# Altium footprint library intlib_pcb.PcbLib: 7 footprints
Each footprint in its own frame and in the unit in brackets; x right, y up, seen from the top. Pads: shape width x height; smd on the part's side, far side on the other; paste and mask are expansions set on the pad; w line width, h text height; cw(c..) or ccw(c..) is an arc to the next point about the centre after c.
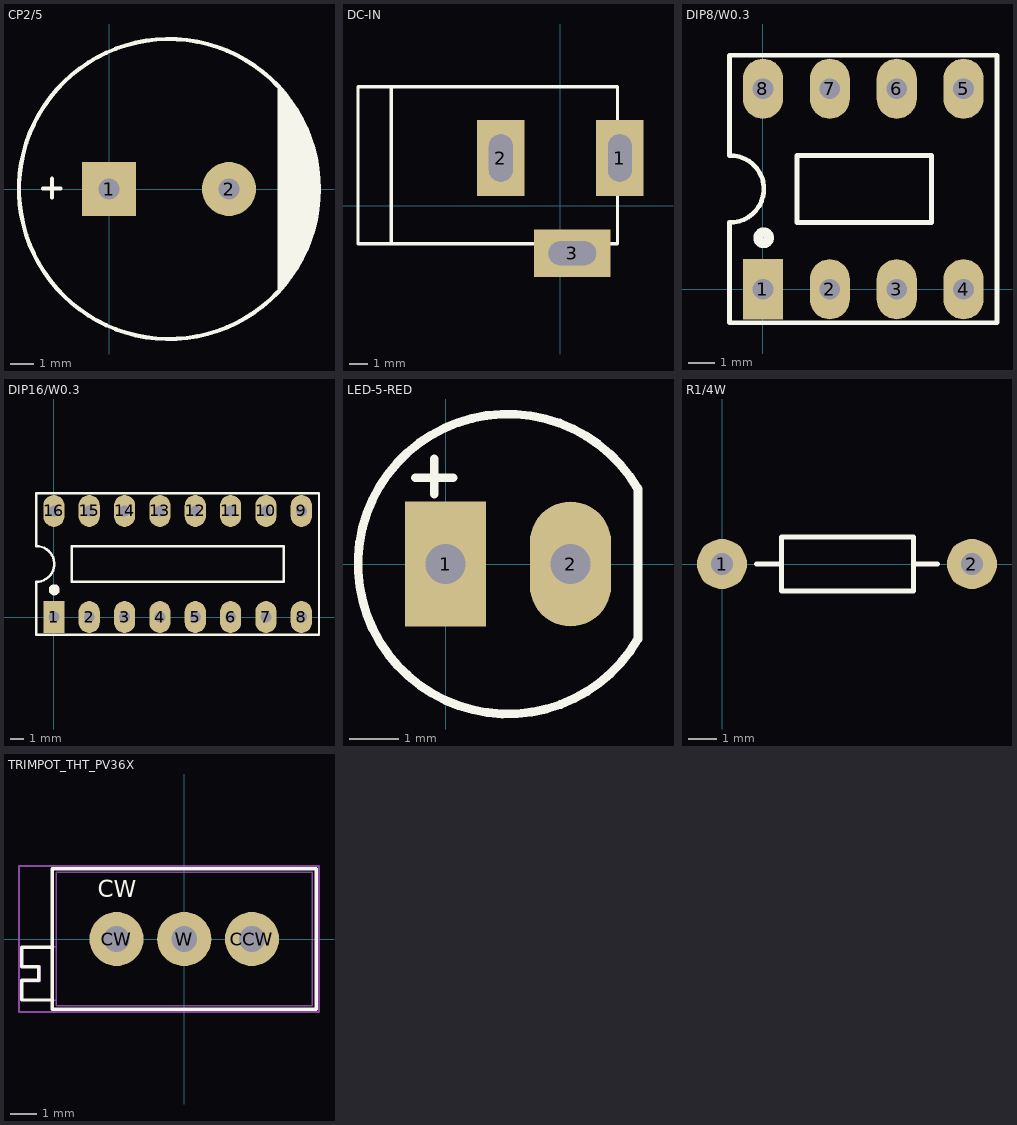
[diagram p0: the footprints below, top view; thin cyan lines are the x and y axes]

## CP2/5 [mil] "Tu hoa 1000uF/25V,50V"
height 600
pads (2):
  rect 90x90 hole 35: 1(0,0)
  round 90 hole 35: 2(200,0)
Top Overlay:
  circle w7: c100,0 r250
  region: 281,174 281,-175 300,-149 301,-151 318,-124 334,-90 349,-29 350,0 348,34 341,70 321,116
  lines w7: -110,1 -81,1 ; -95,-14 -95,17
3D body "User Library-Cap12_5x25.STEP": height 984.37, standoff -747.43, extent -142.12,-246.06 350,246.06

## DC-IN [mil] "Jac DC input"
height 200
pads (3):
  rect 100x160 hole 50 slot 100 at 90 deg: 1(125,100) 2(-125,100)
  rect 160x100 hole 50 slot 100 at 0 deg: 3(25,-100)
Top Overlay:
  lines w7: -355,-80 -355,250 ; -425,-80 -425,250 120,250 120,-80 -425,-80
3D body "SW3dPS-dc range - dc connector[4840.2201].STEP": height 433.67, standoff -137.2, extent -410.35,-105.12 134,269.12

## DIP8/W0.3 [mil] "8 PIN, W 300mil, Pin to pin 100mil"
height 100
pads (8):
  rect 60x90 hole 31: 1(0,0)
  oval 60x90 hole 31: 2(100,0) 3(200,0) 4(300,0) 5(300,300) 6(200,300) 7(100,300) 8(0,300)
Top Overlay:
  circle w15: c1,77 r8
  lines w7: -50.38,100.05 ccw(c-48.69,150.02) -50,200 ; -50,100 -50,-50 350,-50 350,350 -50,350 -50,201 ; 51,100 252,100 252,200 51,200 51,100
3D body "SW3dPS-DIP8-CER.STEP": height 201.25, standoff -129.47, extent -50,-40 350,336.4

## DIP16/W0.3 [mil] "16 PIN, W 300mil, Pin to pin 100mil"
height 100
pads (16):
  rect 60x90 hole 31: 1(0,0)
  oval 60x90 hole 31: 2(100,0) 3(200,0) 4(300,0) 5(400,0) 6(500,0) 7(600,0) 8(700,0) 9(700,300) 10(600,300) 11(500,300) 12(400,300) 13(300,300) 14(200,300) 15(100,300) 16(0,300)
Top Overlay:
  circle w15: c1,77 r8
  lines w7: -50.38,100.05 ccw(c-48.69,150.02) -50,200 ; -50,100 -50,-50 750,-50 750,350 -49,350 -50,349 ; -50,201 -50,350 ; 50,100 50,200 650,200 650,100 50,100
3D body "SW3dPS-DIP 16 _ socket 214.STEP": height 299.42, standoff -131.12, extent -51.7,-57.39 751.7,356

## LED-5-RED [mil] "LED 2 PIN, 5 ly , Only colour,pin to pin 100mil"
height 300
pads (2):
  rect 65x100 hole 32: 1(0,0)
  oval 65x100 hole 32: 2(100,0)
Top Overlay:
  lines w7: -24,69 6,69 ; -9,56 -9,84 ; 153.51,60.71 ccw(c50,0) 153.94,-59.97 ; 154,-59 154,60
3D body "SW3dPS-LEDd5R.STEP": height 339.18, standoff -243.49, extent -64.69,-119 148.69,117.99

## R1/4W [mil] "R 1/4W, 2 Pin, 350mil"
height 100
pads (2):
  round 70 hole 31: 1(0,0) 2(350,0)
Top Overlay:
  lines w7: 48,0 83,0 ; 268,0 302,0 ; 83,-38 268,-38 268,38 83,38 83,-38
3D body "SW3dPS-AXIAL_RESISTOR(0.25W).STEP": height 111.42, standoff -50, extent -39.6,-47 385.6,47.49

## TRIMPOT_THT_PV36X [mil] "TRIMMER, MURATA, PV36X"
height 393.7
pads (3):
  round 80 hole 38: CCW(100,0) CW(-100,0) W(0,0)
Top Overlay:
  lines w5: -195,-90 -240,-90 -240,-61 -215,-61 -215,-41 -240,-41 -240,-12 -195,-12 ; -195,-104 -195,104 195,104 195,-104 -195,-104
  text "CW" at -127.56,61.69 h25
Mechanical 13:
  lines w1.97: -188.98,-90.55 -240.16,-90.55 -240.16,-62.99 -212.6,-62.99 -212.6,-39.37 -240.16,-39.37 -240.16,-11.81 -188.98,-11.81 ; -188.98,-98.43 188.98,-98.43 188.98,98.43 -188.98,98.43 -188.98,-98.43
Mechanical 15:
  lines w3: -244,-108 199,-108 199,108 -244,108 -244,-108
3D body "Trimmer PV36 Side Adjust.STEP": height 393.7, standoff -110.24, extent -240.16,-98.42 188.98,98.43